# Altium footprint library EmbedUno_V1I1.PcbLib: 26 footprints (part 1 of 2)
Each footprint in its own frame and in the unit in brackets; x right, y up, seen from the top. Pads: shape width x height; smd on the part's side, far side on the other; paste and mask are expansions set on the pad; w line width, h text height; cw(c..) or ccw(c..) is an arc to the next point about the centre after c.
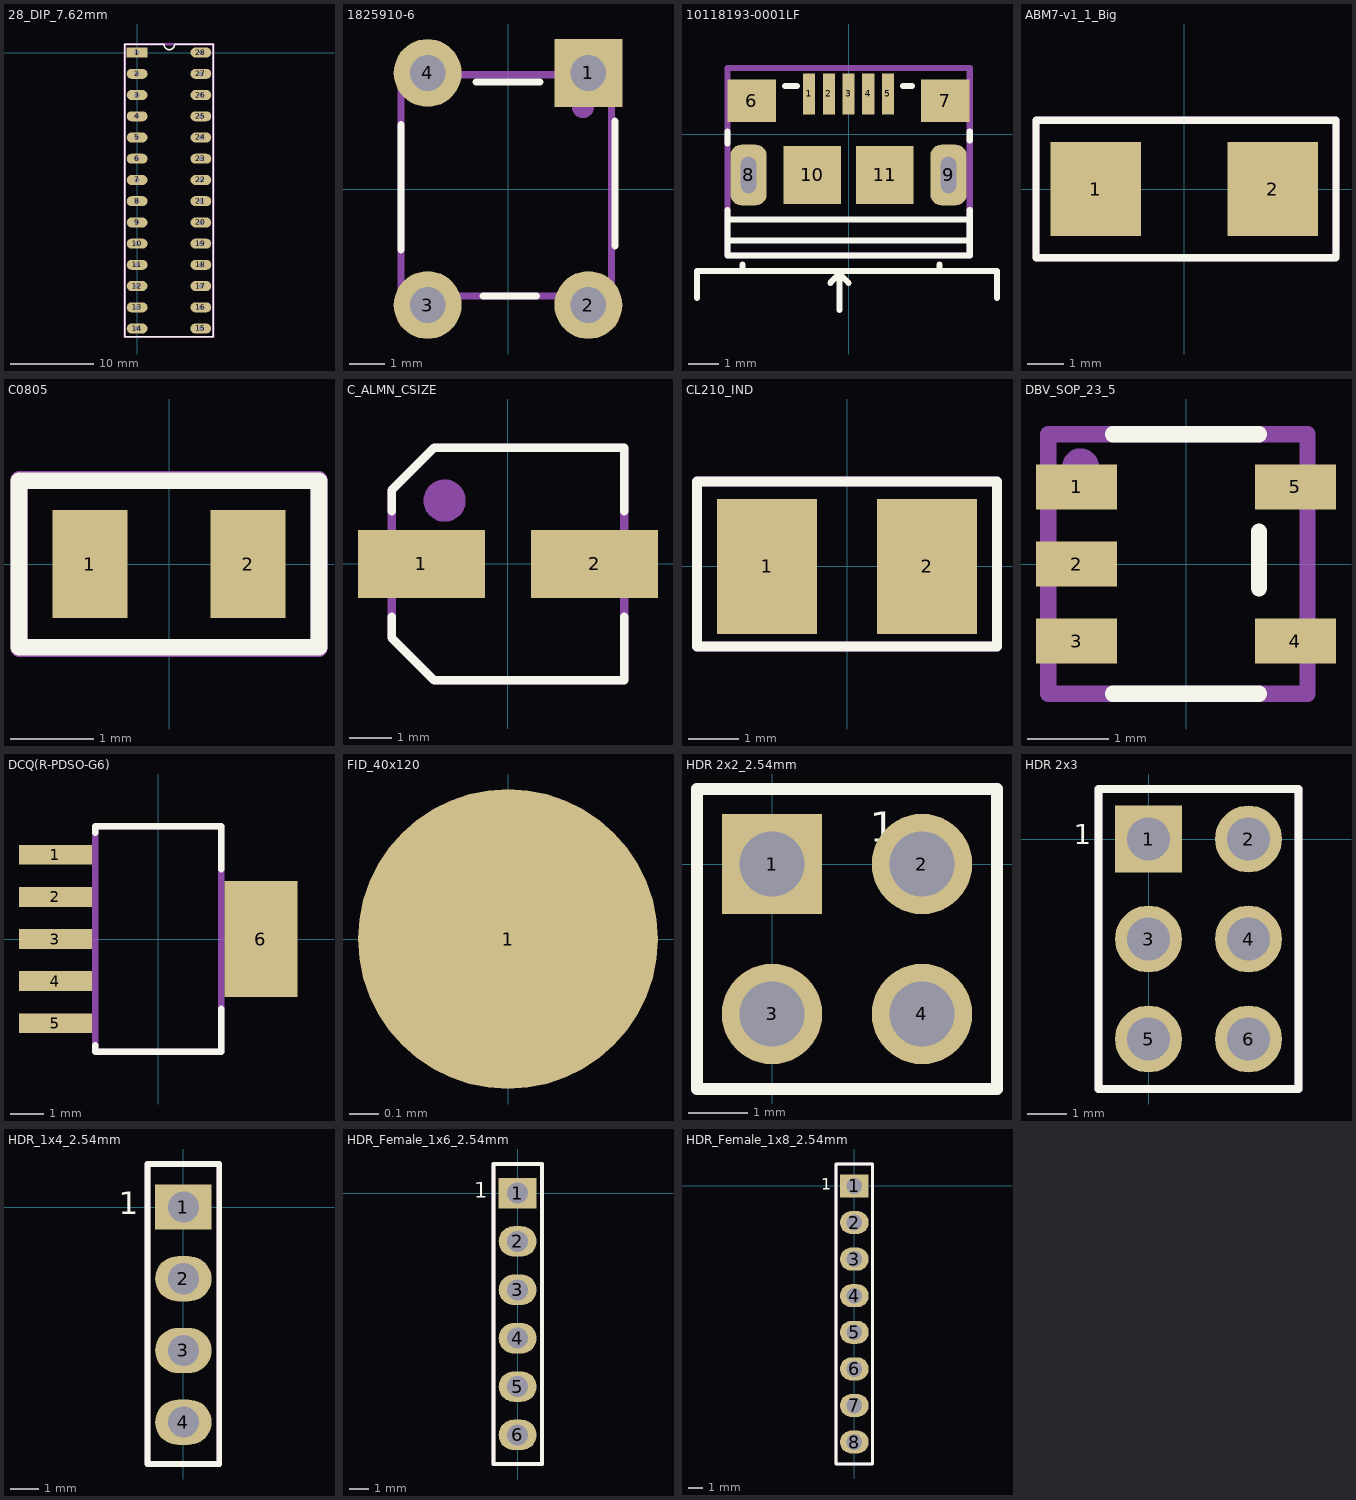
[diagram p0: the footprints below, top view; thin cyan lines are the x and y axes]

## 28_DIP_7.62mm [mm]
pads (28):
  rect 2.5x1.2 hole 0.6: 1(0,0)
  oval 2.5x1.2 hole 0.6: 2(0,-2.54) 3(0,-5.08) 4(0,-7.62) 5(0,-10.16) 6(0,-12.7) 7(0,-15.24) 8(0,-17.78) 9(0,-20.32) 10(0,-22.86) 11(0,-25.4) 12(0,-27.94) 13(0,-30.48) 14(0,-33.02) 15(7.61,-33.01) 16(7.62,-30.48) 17(7.62,-27.94) 18(7.62,-25.4) 19(7.62,-22.86) 20(7.62,-20.32) 21(7.62,-17.78) 22(7.62,-15.24) 23(7.62,-12.7) 24(7.62,-10.16) 25(7.62,-7.62) 26(7.62,-5.08) 27(7.62,-2.54) 28(7.62,0)
Top Overlay:
  lines w0.2: 3.175,0.99 -1.49,0.99 -1.49,-34.01 9.11,-34.01 9.11,0.99 4.51,0.99 ; 3.21,0.99 ccw(c3.845,0.99) 4.48,0.99
Mechanical 29:
  circle w0.5: c0,0 r0.29
  lines w0.254: -1.49,-34.01 -1.49,0.99 9.11,0.99 9.11,-34.01 -1.49,-34.01
  text ".Designator" at 4.5,-23.2 h1.52
3D body "User Library-28 pin dip-1.step": height 7.55, standoff 1.33, extent -0.127,-34.46 7.747,1.481

## 28_DIP_7.62mm_SOCKET [mm]
3D body "dil_socket.stp": height 4.2, standoff -3.17, extent -1.24,-34.26 8.86,1.24

## 1825910-6 [mm]
pads (4):
  rect 1.9x1.9 hole 1: 1(2.25,3.25)
  round 1.9 hole 1: 2(2.25,-3.25) 3(-2.25,-3.25) 4(-2.25,3.25)
Top Overlay:
  lines w0.2: -3,-1.7 -3,1.8 ; -0.9,3 0.9,3 ; -0.7,-3 0.8,-3 ; 3,-1.6 3,1.9
Mechanical 29:
  circle w0.3: c2.1,2.3 r0.16
  lines w0.2: -3,3.1 -3,-3 2.9,-3 2.9,3.2 -2.9,3.2
  text ".Designator" at -2.3,-0.667 h1.6
3D body "User Library-FSM4JLH(1825910-5).step": height 5, standoff -3.51, extent -2.995,-4.098 2.995,3.7

## 10118193-0001LF [mm]
pads (11):
  rect 0.4x1.35 smd paste+0 mask+0.05: 1(-1.3,1.338) 2(-0.65,1.338) 3(0,1.338) 4(0.65,1.338) 5(1.3,1.338)
  rect 1.6x1.4 smd paste+0: 6(-3.2,1.112) 7(3.2,1.112)
  rrect60% 1.2x2 hole 0.5 slot 1.2 at 90 deg paste+0: 8(-3.3,-1.338) 9(3.3,-1.338)
  rect 1.9x1.9 smd paste+0: 10(-1.2,-1.338) 11(1.2,-1.338)
Top Overlay:
  lines w0.2: -5,-5.4 -5,-4.5 4.9,-4.5 4.9,-5.4 ; -4,-3.5 3.9,-3.5 ; -4,-2.8 3.9,-2.8 ; -4,-2.5 -4,-4 4,-4 4,-2.7 4,-2.5 ; -4,-0.3 -4,0.1 ; -3.5,-4.4 -3.5,-4.3 ; -2.1,1.6 -1.7,1.6 ; -0.6,-4.9 -0.3,-4.6 ; -0.3,-5.8 -0.3,-4.5 -0.3,-4.6 ; 0,-4.9 -0.3,-4.6 ; 1.8,1.6 2.1,1.6 ; 3,-4.5 3,-4.3 ; 4,-0.2 4,0.1 ; -0.3,-4.6 -0.3,-4.6 ; -0.3,-4.6 -0.3,-4.6
Mechanical 29:
  lines w0.2: -4,-4 -4,2.2 4,2.2 4,-4 -4,-4
  text ".Designator" at -3.446,-2.238 h1.52
3D body "usb.stp": height 2.81, standoff -0.79, extent -3.928,-4.062 3.929,1.598

## ABM7-v1_1_Big [mm]
pads (2):
  rect 2.5x2.6 smd: 1(-2.45,0) 2(2.45,0)
Top Overlay:
  lines w0.2: -4.1,-1.9 -4.1,1.9 4.2,1.9 4.2,-1.9 -4.1,-1.9
Mechanical 29:
  lines w0.2: -4.1,-1.9 4.1,-1.9 4.2,-1.8 4.2,1.9 -4.1,1.9 -4.1,-1.9
  text ".Designator" at -2.746,-0.738 h1.52
3D body "ABM7.STEP": height 1.41, standoff 0.01, extent -2.997,-1.753 2.997,1.752
3D body: height 1.5, standoff 0, extent -2.1,-1.5 2.1,1.5

## C0805 [mm]
pads (2):
  rect 0.9x1.3 smd: 1(-0.95,0) 2(0.95,0)
Top Overlay:
  lines w0.2: -1.8,-1 -1.8,1 0.688,1 1.8,1 1.8,-1 -1.8,-1
Mechanical 29:
  lines w0.2: -1.8,-1.016 -1.8,1.016 1.8,1.016 1.8,-1.016 -1.8,-1.016
  text ".Designator" at -1.524,-0.423 h1.02
3D body "rnd_150-0805b101k101nt.stp": height 1.25, standoff 0, extent -0.975,-0.635 1.025,0.615

## C_ALMN_CSIZE [mm]
pads (2):
  rect 3x1.6 smd: 1(-2.05,0) 2(2.05,0)
Top Overlay:
  lines w0.2: -2.75,-1.25 -2.75,-1.75 -1.75,-2.75 2.75,-2.75 2.75,-1.25 ; -2.75,1.25 -2.75,1.75 -1.75,2.75 2.75,2.75 2.75,1.25
Mechanical 29:
  circle w0.5: c-1.5,1.5 r0.25
  lines w0.2: -2.75,-1.75 -1.75,-2.75 2.75,-2.75 2.75,2.75 -1.75,2.75 -2.75,1.75 -2.75,-1.5 -2.75,-1.75
  text ".Designator" at -2.3,-0.533 h0.8
3D body "capacitor size C.step": height 5.41, standoff -0.01, extent -2.95,-2.65 2.95,2.65

## CL210_IND [mm]
pads (2):
  rect 2x2.7 smd: 1(-1.6,0) 2(1.6,0)
Top Overlay:
  lines w0.2: -3,-1.6 3,-1.6 3,1.7 -3,1.7 -3,-1.6
Mechanical 29:
  lines w0.2: -3,-1.6 3,-1.6 3,1.7 -3,1.7 -3,-1.6
  text ".Designator" at -2.5,-0.433 h0.8
3D body: height 2.7, standoff -0.01, extent -1.8,-1.1 -1.2,1.1
3D body: height 2.7, standoff -0.01, extent -1.3,1.1 -1.3,1.1
3D body: height 2.7, standoff -0.01, extent 1.4,-1.1 2,1.1
3D body: height 2.7, standoff -0.01, extent -1.2,-1.1 1.4,1.1
3D body: height 2.7, standoff -0.01, extent 2.8,3.8 2.8,3.8

## DBV_SOP_23_5 [mm]
pads (5):
  rect 1x0.55 smd: 1(-1.35,0.95) 2(-1.35,0) 3(-1.35,-0.95) 4(1.35,-0.95) 5(1.35,0.95)
Top Overlay:
  lines w0.2: -0.9,-1.6 0.9,-1.6 ; -0.9,1.6 0.9,1.6 ; 0.9,-0.3 0.9,0.4
Mechanical 29:
  circle w0.254: c-1.3,1.2 r0.1
  lines w0.2: -1.7,-1.6 1.5,-1.6 1.5,1.6 -1.7,1.6 -1.7,-1.6
  text ".Designator" at -1.246,-0.738 h1.52
3D body "User Library-R-PDSO-G5.step": height 1.43, standoff -0.02, extent -1.6,-1.525 1.4,1.525

## DCQ(R-PDSO-G6) [mm]
pads (6):
  rect 2.2x0.6 smd: 1(-3.1,2.54) 2(-3.1,1.27) 3(-3.1,0) 4(-3.1,-1.27) 5(-3.1,-2.54)
  rect 2.2x3.5 smd: 6(3.1,0)
Top Overlay:
  lines w0.2: -1.9,-3.2 -1.9,-3.4 1.9,-3.4 1.9,-2.1 ; -1.9,3.2 -1.9,3.4 1.9,3.4 1.9,2.1
Mechanical 29:
  lines w0.2: -1.9,-3.4 -1.9,3.4 1.9,3.4 1.9,-3.4 -1.9,-3.4
  text ".Designator" at -1.246,-0.638 h1.52
3D body "User Library-TPS73701DCQ.step": height 1.8, standoff 0, extent -3.63,-3.275 3.63,3.275

## FID_40x120 [mil]
pads (1):
  round 40 smd paste-40 mask+40: 1(0,0)

## HDR 2x2_2.54mm [mm]
pads (4):
  rect 1.7x1.7 hole 1.1: 1(0,0)
  round 1.7 hole 1.1: 2(2.54,0) 3(0,-2.54) 4(2.54,-2.54)
Top Overlay:
  lines w0.2: -1.27,-3.81 3.81,-3.81 3.81,1.27 -1.27,1.27 -1.27,-3.81
  text "1" at 1.651,0.381 h0.51
Mechanical 29:
  circle w0.508: c0,0 r0.305
  lines w0.2: -1.27,-3.81 3.81,-3.81 3.81,1.27 -1.27,1.27 -1.27,-3.81
  text ".Designator" at 1.838,-2.846 h1.52
3D body "Header1x2.STEP": height 8.45, standoff -2.53, extent 1.27,-3.81 3.81,1.27
3D body "Header1x2.STEP": height 8.45, standoff -2.53, extent -1.27,-3.81 1.27,1.27

## HDR 2x3 [mm]
pads (6):
  rect 1.7x1.7 hole 1.1: 1(0,0)
  round 1.7 hole 1.1: 2(2.54,0) 3(0,-2.54) 4(2.54,-2.54) 5(0,-5.08) 6(2.54,-5.08)
Top Overlay:
  lines w0.2: -1.27,-6.35 3.81,-6.35 3.81,1.27 -1.27,1.27 -1.27,-6.35
  text "1" at -1.905,-0.127 h0.51
Mechanical 29:
  circle w0.508: c0,0 r0.305
  lines w0.2: -1.27,-6.35 3.81,-6.35 3.81,1.27 -1.27,1.27 -1.27,-6.35
  text ".Designator" at 2.413,-5.588 h1.52
3D body "User Library-2x3 TH Pitch 2_54mm.STEP": height 8.96, standoff -3.74, extent -1.27,-6.35 3.81,1.27

## HDR_1x4_2.54mm [mm]
pads (4):
  rect 2x1.6 hole 1.1: 1(0,0)
  oval 2x1.6 hole 1.1: 2(0,-2.54) 3(0,-5.08) 4(0,-7.62)
Top Overlay:
  lines w0.2: -1.27,-9.1 -1.27,1.524 1.27,1.524 1.27,-9.1 -1.27,-9.1
  text "1" at -2.286,-0.254 h0.8
Mechanical 29:
  circle w0.5: c0,0 r0.254
  lines w0.2: -1.27,-9.1 -1.27,1.524 1.27,1.524 1.27,-9.1 -1.27,-9.1
  text ".Designator" at 0.638,-8.446 h1.52
3D body "HDR_1x4_White.stp": height 8.39, standoff -3.11, extent -1.14,-8.668 1.27,1.092

## HDR_Female_1x6_2.54mm [mm]
pads (6):
  rect 2x1.6 hole 1.1: 1(0,0)
  oval 2x1.6 hole 1.1: 2(0,-2.54) 3(0,-5.08) 4(0,-7.62) 5(0,-10.16) 6(0,-12.7)
Top Overlay:
  lines w0.2: -1.27,-14.224 1.27,-14.224 1.27,1.524 -1.27,1.524 -1.27,-14.224
  text "1" at -2.286,-0.254 h0.8
Mechanical 29:
  circle w0.5: c0,0 r0.254
  lines w0.2: -1.27,-14.224 1.27,-14.224 1.27,1.524 -1.27,1.524 -1.27,-14.224
  text ".Designator" at 0.762,-13.97 h1.52
3D body "m20-7820646_asm.stp": height 8.51, standoff -2.99, extent -1.25,-14.17 1.25,1.47

## HDR_Female_1x8_2.54mm [mm]
pads (8):
  rect 2x1.6 hole 1.1: 1(0,0)
  oval 2x1.6 hole 1.1: 2(0,-2.54) 3(0,-5.08) 4(0,-7.62) 5(0,-10.16) 6(0,-12.7) 7(0,-15.24) 8(0,-17.78)
Top Overlay:
  lines w0.2: -1.27,-19.304 1.27,-19.304 1.27,1.524 -1.27,1.524 -1.27,-19.304
  text "1" at -2.286,-0.254 h0.8
Mechanical 29:
  circle w0.5: c0,0 r0.254
  lines w0.2: -1.27,-19.304 -1.27,1.524 1.27,1.524 1.27,-19.304 -1.27,-19.304
  text ".Designator" at 0.508,-17.272 h1.52
3D body "m20-7820842_asm.stp": height 8.51, standoff -2.99, extent -1.25,-19.304 1.25,1.416